# EAGLE library part ST2-BOARD-?-CHAIN (library module-footprints)
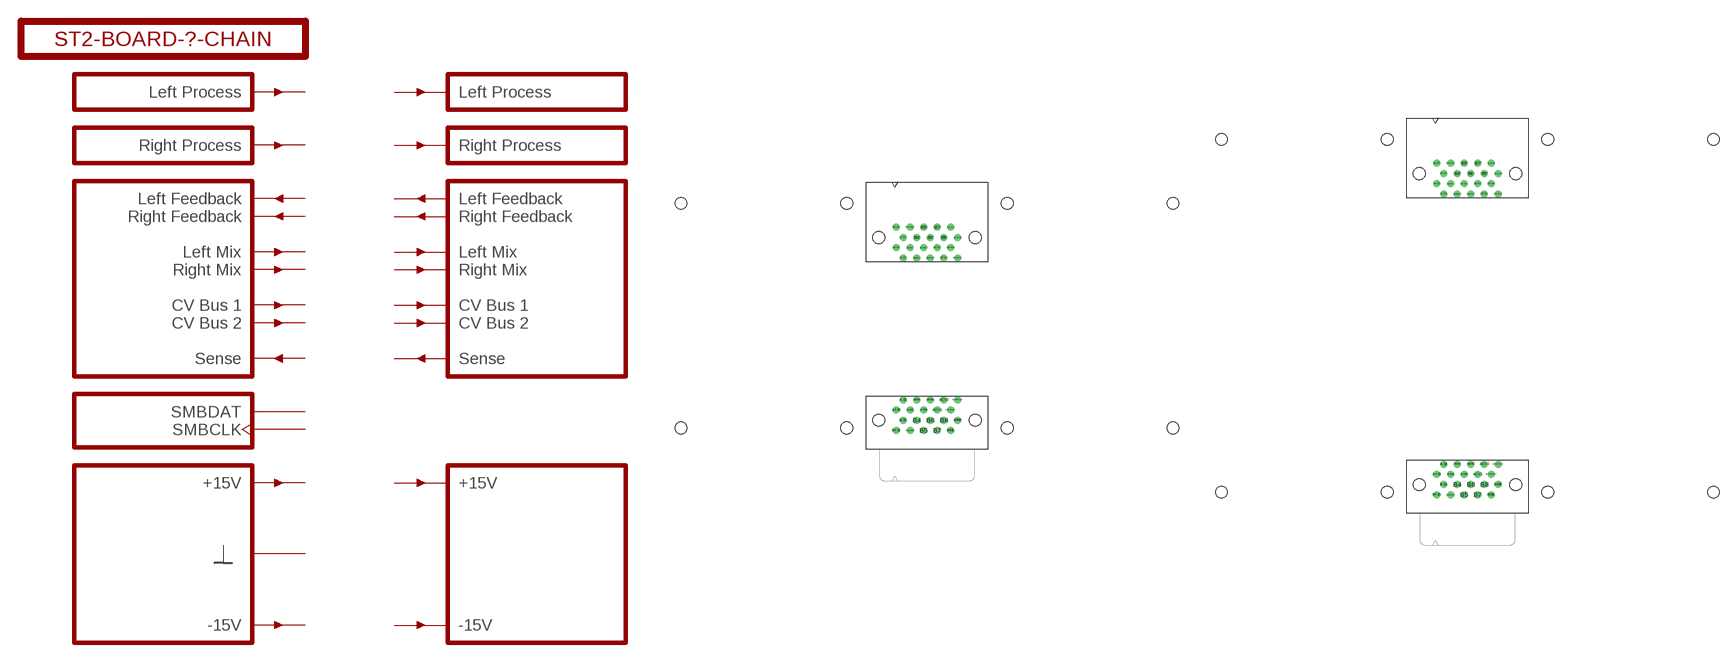
[diagram p0: symbol with the pads of ST2-BOARD-50; footprints ST2-BOARD-50, ST2-BOARD-74]

Designator prefix PCB; gates G$1=VERSION G$2=INL G$3=INR G$4=OUTL G$5=OUTR G$6=BUS-LEFT G$7=BUS-RIGHT G$8=SMBUS G$9=SUPPLY_IN G$10=SUPPLY_OUT_NOGND

## ST2-BOARD-50-CHAIN  [ST2-BOARD-50]
A+15  G$9:P+15V
A+15'  G$10:P+15V
A-15  G$9:P-15V
A-15'  G$10:P-15V
ACV1  G$6:CV1
ACV1'  G$7:CV1'
ACV2  G$6:CV2
ACV2'  G$7:CV2'
ALFBK  G$6:LFBK
ALFBK'  G$7:LFBK'
ALMIX  G$6:LMIX
ALMIX'  G$7:LMIX'
ARFBK  G$6:RFBK
ARFBK'  G$7:RFBK'
ARMIX  G$6:RMIX
ARMIX'  G$7:RMIX'
ASMBCLK  G$8:SMBCLK
ASMBCLK'  G$8:SMBCLK
ASMBDAT  G$8:SMBDAT
ASMBDAT'  G$8:SMBDAT
B4  G$9:GND
B4'  G$9:GND
B5  G$9:GND
B5'  G$9:GND
B6  G$9:GND
B6'  G$9:GND
B7  G$9:GND
B7'  G$9:GND
B8  G$9:GND
B8'  G$9:GND
B+15  G$9:P+15V
B+15'  G$10:P+15V
B-15  G$9:P-15V
B-15'  G$10:P-15V
BINL  G$2:INL
BINR  G$3:INR
BOUTL'  G$4:OUTL
BOUTR'  G$5:OUTR
BSENSE  G$6:SENSE
BSENSE'  G$7:SENSE'

## ST2-BOARD-74-CHAIN  [ST2-BOARD-74]
Pads as for ST2-BOARD-50

## Footprint ST2-BOARD-50 (pad centres in mm)
drill 0.8: A+15 44.285,7.31; A+15' 44.285,37.69; A-15 45.555,9.215; A-15' 45.555,35.785; ACV1 51.905,7.31; ACV1' 51.905,37.69; ACV2 53.175,9.215; ACV2' 53.175,35.785; ALFBK 49.365,7.31; ALFBK' 49.365,37.69; ALMIX 46.825,7.31; ALMIX' 46.825,37.69; ARFBK 50.635,9.215; ARFBK' 50.635,35.785; ARMIX 48.095,9.215; ARMIX' 48.095,35.785; ASMBCLK 55.715,9.215; ASMBCLK' 55.715,35.785; ASMBDAT 54.445,7.31; ASMBDAT' 54.445,37.69; B4 48.095,5.405; B4' 48.095,39.595; B5 49.365,3.5; B5' 49.365,41.5; B6 50.635,5.405; B6' 50.635,39.595; B7 51.905,3.5; B7' 51.905,41.5; B8 53.175,5.405; B8' 53.175,39.595; B+15 44.285,3.5; B+15' 44.285,41.5; B-15 45.555,5.405; B-15' 45.555,39.595; BINL 54.445,3.5; BINR 55.715,5.405; BOUTL' 54.445,41.5; BOUTR' 55.715,39.595; BSENSE 46.825,3.5; BSENSE' 46.825,41.5
hole 2.2 at 4,4
hole 2.2 at 4,46
hole 2.2 at 96,4
hole 2.2 at 96,46
hole 2.2 at 35,46
hole 2.2 at 65,46
hole 2.2 at 65,4
hole 2.2 at 35,4
hole 2.2 at 59.025,5.405
hole 2.2 at 40.975,5.405
hole 2.2 at 40.975,39.595
hole 2.2 at 59.025,39.595

## Footprint ST2-BOARD-74 (pad centres in mm)
drill 0.8: A+15 44.285,7.31; A+15' 44.285,61.69; A-15 45.555,9.215; A-15' 45.555,59.785; ACV1 51.905,7.31; ACV1' 51.905,61.69; ACV2 53.175,9.215; ACV2' 53.175,59.785; ALFBK 49.365,7.31; ALFBK' 49.365,61.69; ALMIX 46.825,7.31; ALMIX' 46.825,61.69; ARFBK 50.635,9.215; ARFBK' 50.635,59.785; ARMIX 48.095,9.215; ARMIX' 48.095,59.785; ASMBCLK 55.715,9.215; ASMBCLK' 55.715,59.785; ASMBDAT 54.445,7.31; ASMBDAT' 54.445,61.69; B4 48.095,5.405; B4' 48.095,63.595; B5 49.365,3.5; B5' 49.365,65.5; B6 50.635,5.405; B6' 50.635,63.595; B7 51.905,3.5; B7' 51.905,65.5; B8 53.175,5.405; B8' 53.175,63.595; B+15 44.285,3.5; B+15' 44.285,65.5; B-15 45.555,5.405; B-15' 45.555,63.595; BINL 54.445,3.5; BINR 55.715,5.405; BOUTL' 54.445,65.5; BOUTR' 55.715,63.595; BSENSE 46.825,3.5; BSENSE' 46.825,65.5
hole 2.2 at 4,4
hole 2.2 at 4,70
hole 2.2 at 96,4
hole 2.2 at 96,70
hole 2.2 at 35,70
hole 2.2 at 65,70
hole 2.2 at 65,4
hole 2.2 at 35,4
hole 2.2 at 59.025,5.405
hole 2.2 at 40.975,5.405
hole 2.2 at 40.975,63.595
hole 2.2 at 59.025,63.595